# Altium footprint library jtag_connector.PcbLib: 1 footprints
Each footprint in its own frame and in the unit in brackets; x right, y up, seen from the top. Pads: shape width x height; smd on the part's side, far side on the other; paste and mask are expansions set on the pad; w line width, h text height; cw(c..) or ccw(c..) is an arc to the next point about the centre after c.

## PCBComponent_1 [mm]
via 15.24,6.985 diameter 1.27 hole 0.711
via 13.208,6.985 diameter 1.27 hole 0.711
via 10.922,6.985 diameter 1.27 hole 0.711
via 8.763,6.985 diameter 1.27 hole 0.711
via 6.477,6.985 diameter 1.27 hole 0.711
via 4.191,6.985 diameter 1.27 hole 0.711
via 1.778,6.985 diameter 1.27 hole 0.711